# Altium footprint library TEENSY_4.PcbLib: 1 footprints
Each footprint in its own frame and in the unit in brackets; x right, y up, seen from the top. Pads: shape width x height; smd on the part's side, far side on the other; paste and mask are expansions set on the pad; w line width, h text height; cw(c..) or ccw(c..) is an arc to the next point about the centre after c.
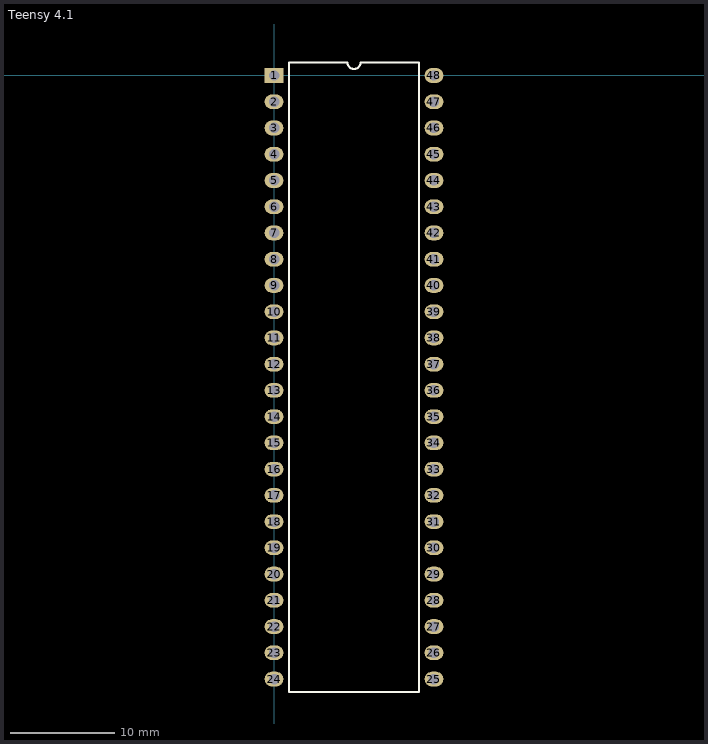
[diagram p0: the footprint, top view; thin cyan lines are the x and y axes]

## Teensy 4.1 [mm]
pads (48):
  rect 1.8x1.4 hole 1: 1(0,0)
  oval 1.8x1.4 hole 1: 2(0,-2.5) 3(0,-5) 4(0,-7.5) 5(0,-10) 6(0,-12.5) 7(0,-15) 8(0,-17.5) 9(0,-20) 10(0,-22.5) 11(0,-25) 12(0,-27.5) 13(0,-30) 14(0,-32.5) 15(0,-35) 16(0,-37.5) 17(0,-40) 18(0,-42.5) 19(0,-45) 20(0,-47.5) 21(0,-50) 22(0,-52.5) 23(0,-55) 24(0,-57.5) 25(15.24,-57.5) 26(15.24,-55) 27(15.24,-52.5) 28(15.24,-50) 29(15.24,-47.5) 30(15.24,-45) 31(15.24,-42.5) 32(15.24,-40) 33(15.24,-37.5) 34(15.24,-35) 35(15.24,-32.5) 36(15.24,-30) 37(15.24,-27.5) 38(15.24,-25) 39(15.24,-22.5) 40(15.24,-20) 41(15.24,-17.5) 42(15.24,-15) 43(15.24,-12.5) 44(15.24,-10) 45(15.24,-7.5) 46(15.24,-5) 47(15.24,-2.5) 48(15.24,0)
Top Overlay:
  lines w0.2: 1.435,-58.75 1.435,1.25 6.995,1.25 ccw(c7.62,1.25) 8.245,1.25 13.805,1.25 13.805,-58.75 1.435,-58.75
3D body "Teensy_4.1_Assembly.STEP": height 12.31, standoff 7.04, extent -1.397,-63.409 16.383,3.151
3D body "Teensy 4.1 (With Headers).step": height 10.77, standoff -3.31, extent -1.397,-60.813 16.383,1.397